# Altium footprint library CRYSTAL_5x3.2mm.PcbLib: 1 footprints
Each footprint in its own frame and in the unit in brackets; x right, y up, seen from the top. Pads: shape width x height; smd on the part's side, far side on the other; paste and mask are expansions set on the pad; w line width, h text height; cw(c..) or ccw(c..) is an arc to the next point about the centre after c.
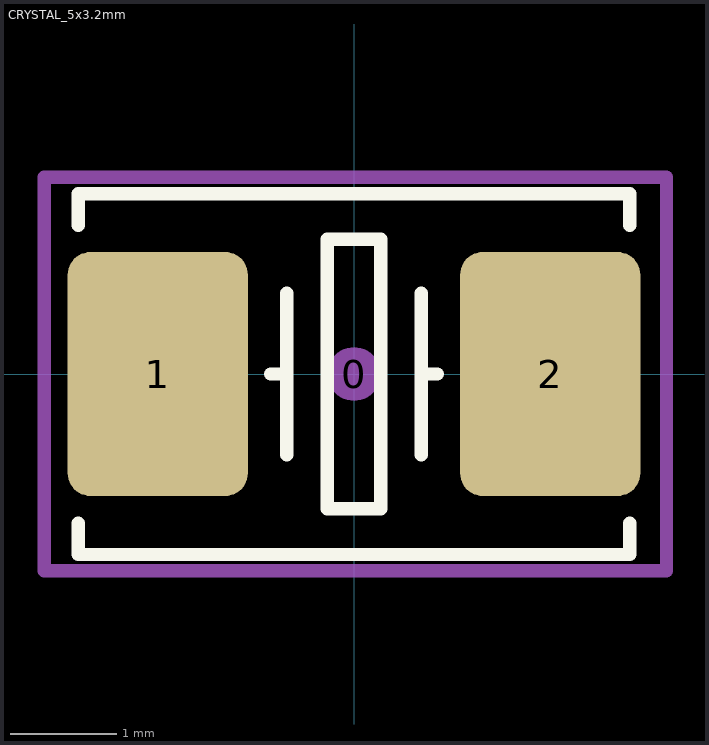
[diagram p0: the footprint, top view; thin cyan lines are the x and y axes]

## CRYSTAL_5x3.2mm [mm] "SMD Crystal 5x3.2mm"
height 1.2
pads (3):
  round 0.508 on Mech15: 0(0,0)
  rrect25% 1.7x2.3 smd: 1(-1.85,0) 2(1.85,0)
Top Overlay:
  lines w0.127: -2.6,-1.406 -2.6,-1.702 2.6,-1.702 2.6,-1.406 ; -2.598,1.404 -2.598,1.7 2.6,1.698 2.6,1.403 ; -0.787,0 -0.635,0 ; -0.635,-0.762 -0.635,0.762 ; 0.635,-0.762 0.635,0.762 ; 0.635,0 0.787,0 ; -0.254,-1.27 0.254,-1.27 0.254,1.27 -0.254,1.27 -0.254,-1.27
Mechanical 15:
  lines w0.127: -2.921,-1.854 2.946,-1.854 2.946,1.854 -2.921,1.854 -2.921,-1.854
3D body "User Library-ABM3.STEP": height 1.3, standoff 0, extent -2.6,-1.702 2.6,1.698